# Altium schematic symbol library LIS3DH.SchLib: 2 symbols
Pins are listed as number, name and electrical type; pins without a type are passive.

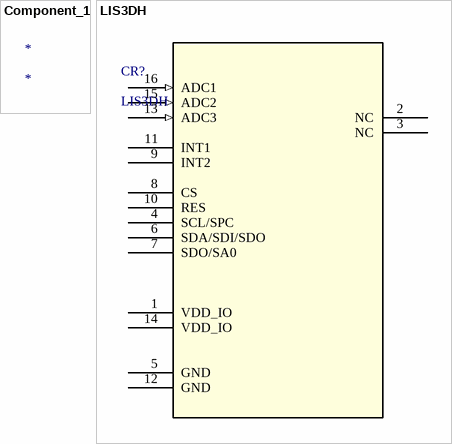
[diagram p0: symbols Component_1 to LIS3DH]

## Component_1
designator *

## LIS3DH
designator CR?
No Description Available; Mfr_Name: STMicroelectronics; Type: DEV; Copyright: Copyright (C) 2023 Ultra Librarian. All rights reserved.; Manufacturer_Part_Number: LIS3DH; RefDes: RefDes
footprint LGA-16_3x3x1mm_STM
pins: 1 VDD_IO (power), 2 NC, 3 NC, 4 SCL/SPC, 5 GND (power), 6 SDA/SDI/SDO, 7 SDO/SA0, 8 CS, 9 INT2, 10 RES, 11 INT1, 12 GND (power), 13 ADC3 (in), 14 VDD_IO (power), 15 ADC2 (in), 16 ADC1 (in)